# Altium schematic symbol library HDR.SchLib: 2 symbols
Pins are listed as number, name and electrical type; pins without a type are passive.

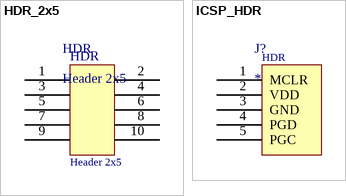
[diagram p0: symbols HDR_2x5 to ICSP_HDR]

## HDR_2x5
designator HDR, comment Header 2x5
pins: 1, 2, 3, 4, 5, 6, 7, 8, 9, 10

## ICSP_HDR
designator J?
footprint ICSP_HDR (Footprint not found)
pins: 1 MCLR, 2 VDD, 3 GND, 4 PGD, 5 PGC
text: HDR